# EAGLE library part RESITOR_ARRAY (library Explore-Labs-EAGLE-Library)
Bourns Resistor Array 4.7K, 125mW, 4 Resistors
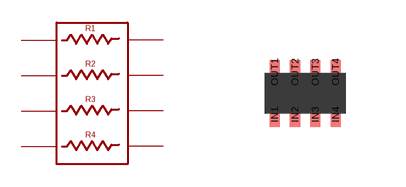
[diagram p0: symbol with the pads of CAT10; footprint CAT10]

Designator prefix -

## RESITOR_ARRAY  [CAT10]
IN1  IN1
IN2  IN2
IN3  IN3
IN4  IN4
OUT1  OUT1
OUT2  OUT2
OUT3  OUT3
OUT4  OUT4

## Footprint CAT10 (pad centres in mm)
Bourns Resistor Array 4.7K +-5%
smd 0.254 x 0.61: IN1 -0.762,-0.533; IN2 -0.254,-0.533; IN3 0.254,-0.533; IN4 0.762,-0.533; OUT1 -0.762,0.533; OUT2 -0.254,0.533; OUT3 0.254,0.533; OUT4 0.762,0.533